# Altium footprint library GPSLib.PcbLib: 3 footprints
Each footprint in its own frame and in the unit in brackets; x right, y up, seen from the top. Pads: shape width x height; smd on the part's side, far side on the other; paste and mask are expansions set on the pad; w line width, h text height; cw(c..) or ccw(c..) is an arc to the next point about the centre after c.
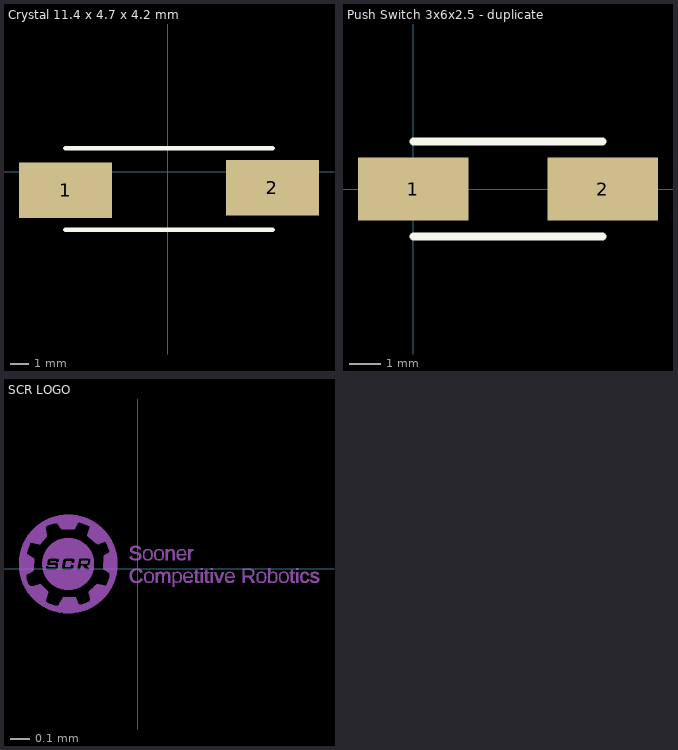
[diagram p0: the footprints below, top view; thin cyan lines are the x and y axes]

## Crystal 11.4 x 4.7 x 4.2 mm [mil]
pads (2):
  rect 200x120 smd: 1(-220,-40) 2(225,-35)
Top Overlay:
  lines w10: -220,-125 225,-125 ; -220,50 225,50

## Push Switch 3x6x2.5 - duplicate [mm]
pads (2):
  rect 3.5x2 smd: 1(0,0) 2(6,0)
Top Overlay:
  lines w0.254: 0,-1.5 6,-1.5 ; 0,1.5 6,1.5

## SCR LOGO [mil]
Mechanical 1:
  drawing of 31 lines, arcs and shapes, not listed